# Altium schematic symbol library oystesm.SchLib: 3 symbols
Pins are listed as number, name and electrical type; pins without a type are passive.

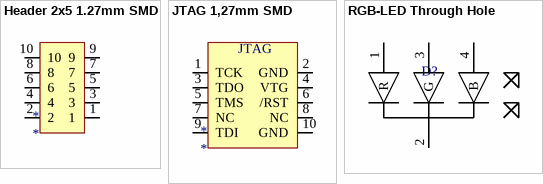
[diagram p0: symbols Header 2x5 1.27mm SMD to RGB-LED Through Hole]

## Header 2x5 1.27mm SMD
designator *
footprint Header 1,27mm SMD 10P
pins: 1, 2, 3, 4, 5, 6, 7, 8, 9, 10

## JTAG 1,27mm SMD
designator *
footprint Header 1,27mm SMD 10P
pins: 1 TCK, 2 GND, 3 TDO, 4 VTG, 5 TMS, 6 /RST, 7 NC, 8 NC, 9 TDI, 10 GND
text: JTAG

## RGB-LED Through Hole
designator D?  (value not drawn)
RGB-LED Through Hole
footprint RGB-LED Through Hole
pins: 1 R, 2 C, 3 G, 4 B